# EAGLE library part TI-LPRF-EM (library C3-Modules)
Texas Instruments LPRF SoC Evaluation Module (EM) PCB Mount For mounting CC25XXEM SoC Daughter Cards such as CC25XXEM Cards See SmartRF05 and SoCBB Documentation Using 2x SAMTEC TFM-110-02-L-D-LC <http://www.samtec.com/documents/webfiles/pdf/TFM.PDF> 1.2 inches apart.
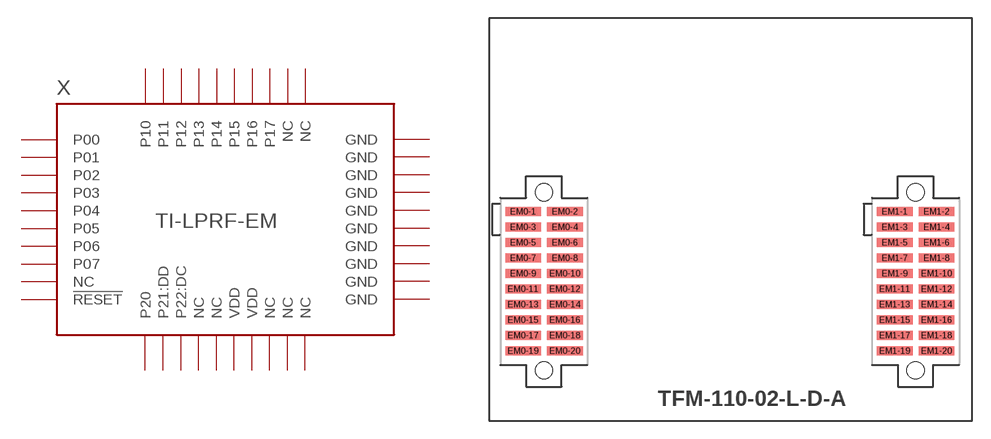
[diagram p2: symbol with the pads of TI-LPRF-EM; footprint TI-LPRF-EM]

Designator prefix X

## TI-LPRF-EM  [TI-LPRF-EM]
EM0-1  GND  pas
EM0-2  NC  nc
EM0-3  P04
EM0-4  P13
EM0-5  P01
EM0-6  P10
EM0-7  P02
EM0-8  NC  nc
EM0-9  P03
EM0-10  P21:DD
EM0-11  P00
EM0-12  P22:DC
EM0-13  P11
EM0-14  P14
EM0-15  P06
EM0-16  P15
EM0-17  P07
EM0-18  P16
EM0-19  GND  pas
EM0-20  P17
EM1-1  NC  nc
EM1-2  GND  pas
EM1-3  NC  nc
EM1-4  GND  pas
EM1-5  NC  nc
EM1-6  GND  pas
EM1-7  VDD  pwr
EM1-8  GND  pas
EM1-9  VDD  pwr
EM1-10  GND  pas
EM1-11  NC  nc
EM1-12  GND  pas
EM1-13  NC  nc
EM1-14  GND  pas
EM1-15  !RESET  in
EM1-16  GND  pas
EM1-17  P12
EM1-18  P05
EM1-19  P20
EM1-20  NC  nc

## Footprint TI-LPRF-EM (pad centres in mm)
smd 2.921 x 0.737: EM0-1 -16.51,5.715; EM0-2 -13.081,5.715; EM0-3 -16.51,4.445; EM0-4 -13.081,4.445; EM0-5 -16.51,3.175; EM0-6 -13.081,3.175; EM0-7 -16.51,1.905; EM0-8 -13.081,1.905; EM0-9 -16.51,0.635; EM0-10 -13.081,0.635; EM0-11 -16.51,-0.635; EM0-12 -13.081,-0.635; EM0-13 -16.51,-1.905; EM0-14 -13.081,-1.905; EM0-15 -16.51,-3.175; EM0-16 -13.081,-3.175; EM0-17 -16.51,-4.445; EM0-18 -13.081,-4.445; EM0-19 -16.51,-5.715; EM0-20 -13.081,-5.715; EM1-1 13.97,5.715; EM1-2 17.399,5.715; EM1-3 13.97,4.445; EM1-4 17.399,4.445; EM1-5 13.97,3.175; EM1-6 17.399,3.175; EM1-7 13.97,1.905; EM1-8 17.399,1.905; EM1-9 13.97,0.635; EM1-10 17.399,0.635; EM1-11 13.97,-0.635; EM1-12 17.399,-0.635; EM1-13 13.97,-1.905; EM1-14 17.399,-1.905; EM1-15 13.97,-3.175; EM1-16 17.399,-3.175; EM1-17 13.97,-4.445; EM1-18 17.399,-4.445; EM1-19 13.97,-5.715; EM1-20 17.399,-5.715
hole 1.42 at -14.796,7.305
hole 1.42 at -14.796,-7.305
hole 1.42 at 15.684,7.305
hole 1.42 at 15.684,-7.305